# Altium schematic symbol library FEEL-Lora-STM32-Road-datalogger.SchLib: 8 symbols
Pins are listed as number, name and electrical type; pins without a type are passive.

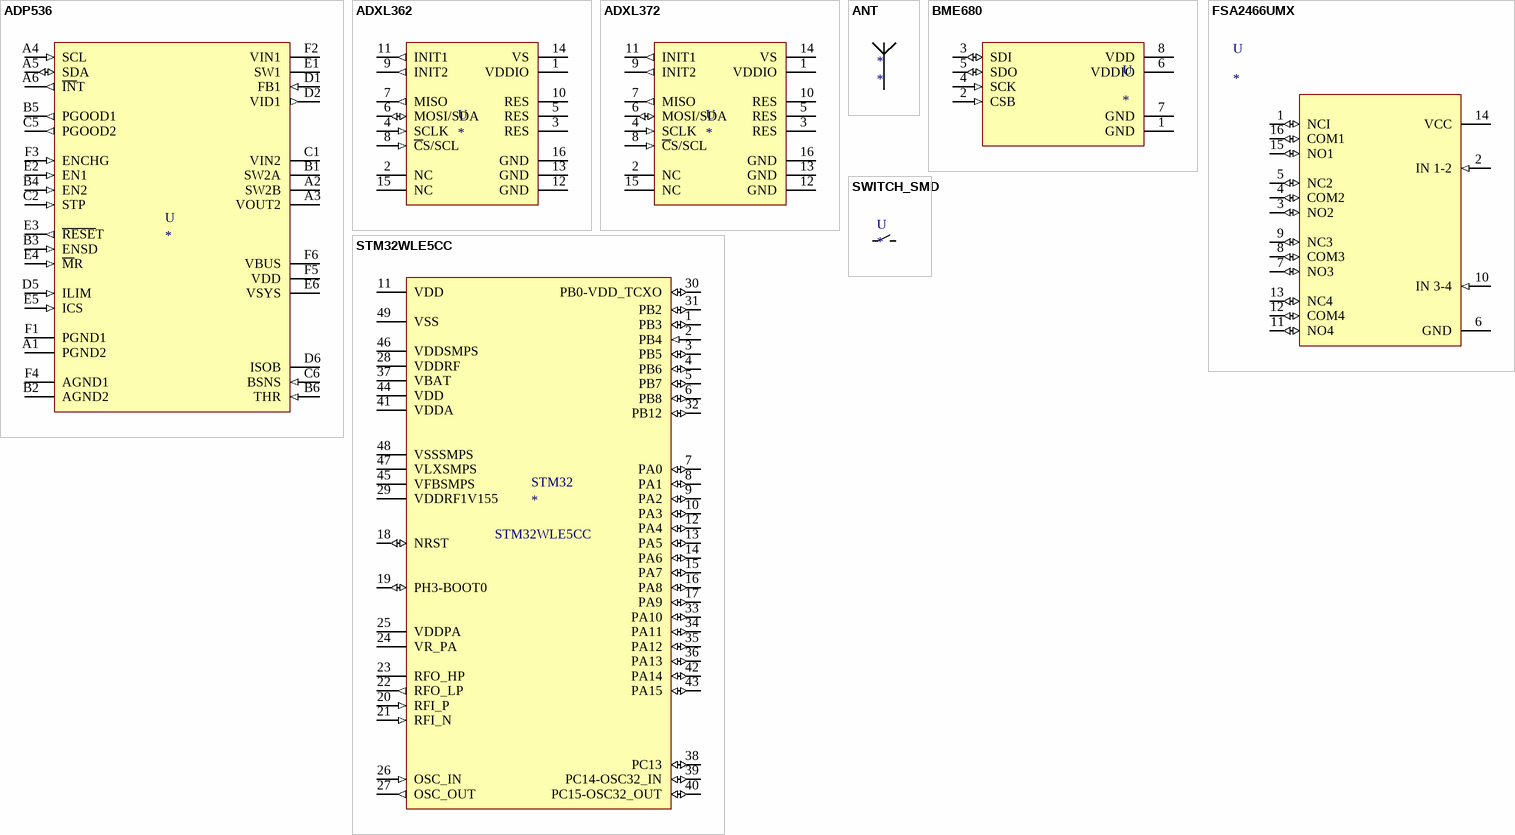
[diagram p0: symbols ADP536 to SWITCH_SMD]

## ADP536
designator U
Advanced Battery Management PMIC with Ultra Low Power Buck and Buck Boost
pins: A1 PGND2 (power) "Power Ground for the Buck Regulator", A2 SW2B "Switching Node for the Buck Boost Regulator", A3 VOUT2 (power) "Buck Boost Regulator Output Pin", A4 SCL (in) "I2C Serial Clock", A5 SDA (io) "I2C Serial Data", A6 ~{IN}T (out) "Processor Interrupt (Active Low)", B1 SW2A "Switching Node for the Buck Boost Regulator", B2 AGND2 (power) "Analog Ground", B3 ENSD (in) "Shutdown Mode Select", B4 EN2 (in) "Enable Pin for Buck Boost Regulator", B5 PGOOD1 (out) "Power-Good Signal Output.", B6 THR (in) "Battery Pack Thermistor Connection.", C1 VIN2 (power) "Input Power for the Buck Regulator", C2 STP (in) "Stop Switching for the Selected Channel", C5 PGOOD2 (out) "Power-Good Signal Output.", C6 BSNS (in) "Battery Voltage Sense.", D1 FB1 (in) "Feedback Sensing Input for the Buck Regulator", D2 VID1 (out) "Configure Buck Regulator Output Voltage", D5 ILIM (in), D6 ISOB (power) "Battery Supply-Side Input to Internal Isolation FET", E1 SW1 "Switching Node for Buck Regulator", E2 EN1 (in) "Enable Pin for Buck Boost Regulator", E3 ~{RESE}T (out) "Set Charge Current", E4 ~{M}R (in) "Manual Reset Input", E5 ICS (in), E6 VSYS (power) "Linear Charger, Supply Side Input to the Internal Isolation FET.", F1 PGND1 (power) "Power Ground for the Buck Regulator", F2 VIN1 (power) "Input Power for the Buck Regulator", F3 ENCHG (in) "Logic Input for the Enable Charger Function", F4 AGND1 (power) "Analog Ground", F5 VDD (power) "Internal Circuit Power Supply", F6 VBUS (power) "Power Connection to USB VBUS"

## ADXL362
designator U
3 axis accelerometer
pins: 1 VDDIO, 2 NC, 3 RES, 4 SCLK (in), 5 RES, 6 MOSI/SDA (io), 7 MISO (out), 8 ~{C}S/SCL (in), 9 INIT2 (out), 10 RES, 11 INIT1 (out), 12 GND (power), 13 GND (power), 14 VS, 15 NC, 16 GND (power)

## ADXL372
designator U
3 axis accelerometer
pins: 1 VDDIO, 2 NC, 3 RES, 4 SCLK (in), 5 RES, 6 MOSI/SDA (io), 7 MISO (out), 8 ~{C}S/SCL (in), 9 INIT2 (out), 10 RES, 11 INIT1 (out), 12 GND (power), 13 GND (power), 14 VS, 15 NC, 16 GND (power)

## ANT
designator *
pins: 1

## BME680
designator U
Low power gas, pressure, temperature & humidity
pins: 1 GND (power) "Ground", 2 CSB (in) "Chip Select", 3 SDI (io) "Serial data input", 4 SCK (in) "Serial clock input", 5 SDO (io) "Serial Data output", 6 VDDIO (power) "Digital / Interface supply", 7 GND (power) "Ground", 8 VDD (power) "Analog Supply"

## FSA2466UMX
designator U
DATA / AUDIO Low-Voltage Dual DPDT Analog Switch
pins: 1 NCI (io) "Data/Audio Port", 2 IN 1-2 (in) "Control Input for Data & Common Port 1&2", 3 NO2 (io) "Data/Audio Port", 4 COM2 (io) "Data/Audio Common Port", 5 NC2 (io) "Data/Audio Port", 6 GND (power), 7 NO3 (io) "Data/Audio Port", 8 COM3 (io) "Data/Audio Common Port", 9 NC3 (io) "Data/Audio Port", 10 IN 3-4 (in) "Control Input for Data & Common Ports 3&4", 11 NO4 (io) "Data/Audio Port", 12 COM4 (io) "Data/Audio Common Port", 13 NC4 (io) "Data/Audio Port", 14 VCC (power) "Voltage Supply", 15 NO1 (io) "Data/Audio Port", 16 COM1 (io) "Data/Audio Common Port"

## STM32WLE5CC
designator STM32
Ultra-low power multi-modulation wireless STM32WLE5 microcontrollers
footprint stm32wle5cc
pins: 1 PB3 (io), 2 PB4 (in), 3 PB5 (io), 4 PB6 (io), 5 PB7 (io), 6 PB8 (io), 7 PA0 (io), 8 PA1 (io), 9 PA2 (io), 10 PA3 (io), 11 VDD (power), 12 PA4 (io), 13 PA5 (io), 14 PA6 (io), 15 PA7 (io), 16 PA8 (io), 17 PA9 (io), 18 NRST (io), 19 PH3-BOOT0 (io), 20 RFI_P (in), 21 RFI_N (in), 22 RFO_LP (out), 23 RFO_HP, 24 VR_PA (power), 25 VDDPA (power), 26 OSC_IN (in), 27 OSC_OUT (out), 28 VDDRF (power), 29 VDDRF1V155 (power), 30 PB0-VDD_TCXO (io), 31 PB2 (io), 32 PB12 (io), 33 PA10 (io), 34 PA11 (io), 35 PA12 (io), 36 PA13 (io), 37 VBAT (power), 38 PC13 (io), 39 PC14-OSC32_IN (io), 40 PC15-OSC32_OUT (io), 41 VDDA (power), 42 PA14 (io), 43 PA15 (io), 44 VDD (power), 45 VFBSMPS (power), 46 VDDSMPS (power), 47 VLXSMPS (power), 48 VSSSMPS (power), 49 VSS (power)

## SWITCH_SMD
designator U
pins: 1, 2